# EAGLE library part SPICE_IO (library sjg-pixl)
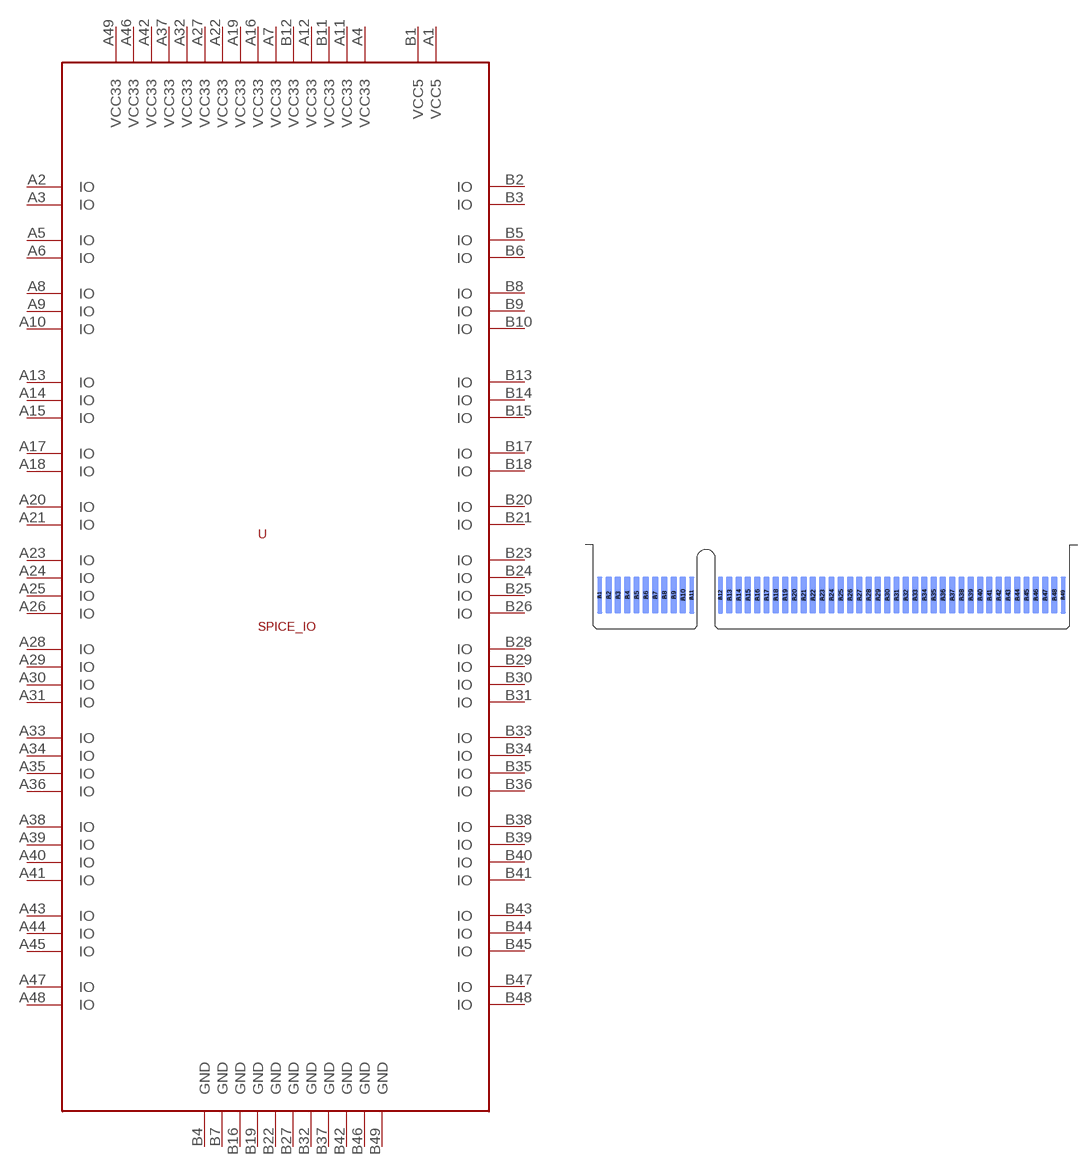
[diagram p6: symbol with the pads of PCIE98; footprint PCIE98]

Designator prefix -

## SPICE_IO  [PCIE98]
A1  VCC5
A2  IO
A3  IO
A4  VCC33
A5  IO
A6  IO
A7  VCC33
A8  IO
A9  IO
A10  IO
A11  VCC33
A12  VCC33
A13  IO
A14  IO
A15  IO
A16  VCC33
A17  IO
A18  IO
A19  VCC33
A20  IO
A21  IO
A22  VCC33
A23  IO
A24  IO
A25  IO
A26  IO
A27  VCC33
A28  IO
A29  IO
A30  IO
A31  IO
A32  VCC33
A33  IO
A34  IO
A35  IO
A36  IO
A37  VCC33
A38  IO
A39  IO
A40  IO
A41  IO
A42  VCC33
A43  IO
A44  IO
A45  IO
A46  VCC33
A47  IO
A48  IO
A49  VCC33
B1  VCC5
B2  IO
B3  IO
B4  GND
B5  IO
B6  IO
B7  GND
B8  IO
B9  IO
B10  IO
B11  VCC33
B12  VCC33
B13  IO
B14  IO
B15  IO
B16  GND
B17  IO
B18  IO
B19  GND
B20  IO
B21  IO
B22  GND
B23  IO
B24  IO
B25  IO
B26  IO
B27  GND
B28  IO
B29  IO
B30  IO
B31  IO
B32  GND
B33  IO
B34  IO
B35  IO
B36  IO
B37  GND
B38  IO
B39  IO
B40  IO
B41  IO
B42  GND
B43  IO
B44  IO
B45  IO
B46  GND
B47  IO
B48  IO
B49  GND

## Footprint PCIE98 (pad centres in mm)
smd 0.6 x 4 bottom: A1 -11.45,3.6; A11 -1.55,3.6; A12 1.55,3.6; A49 38.45,3.6
smd 0.7 x 4 bottom: A2 -10.5,3.6; A3 -9.5,3.6; A4 -8.5,3.6; A5 -7.5,3.6; A6 -6.5,3.6; A7 -5.5,3.6; A8 -4.5,3.6; A9 -3.5,3.6; A10 -2.5,3.6; A13 2.5,3.6; A14 3.5,3.6; A15 4.5,3.6; A16 5.5,3.6; A17 6.5,3.6; A18 7.5,3.6; A19 8.5,3.6; A20 9.5,3.6; A21 10.5,3.6; A22 11.5,3.6; A23 12.5,3.6; A24 13.5,3.6; A25 14.5,3.6; A26 15.5,3.6; A27 16.5,3.6; A28 17.5,3.6; A29 18.5,3.6; A30 19.5,3.6; A31 20.5,3.6; A32 21.5,3.6; A33 22.5,3.6; A34 23.5,3.6; A35 24.5,3.6; A36 25.5,3.6; A37 26.5,3.6; A38 27.5,3.6; A39 28.5,3.6; A40 29.5,3.6; A41 30.5,3.6; A42 31.5,3.6; A43 32.5,3.6; A44 33.5,3.6; A45 34.5,3.6; A46 35.5,3.6; A47 36.5,3.6; A48 37.5,3.6
smd 0.6 x 4: B1 -11.45,3.6; B11 -1.55,3.6; B12 1.55,3.6; B49 38.45,3.6
smd 0.7 x 4: B2 -10.5,3.6; B3 -9.5,3.6; B4 -8.5,3.6; B5 -7.5,3.6; B6 -6.5,3.6; B7 -5.5,3.6; B8 -4.5,3.6; B9 -3.5,3.6; B10 -2.5,3.6; B13 2.5,3.6; B14 3.5,3.6; B15 4.5,3.6; B16 5.5,3.6; B17 6.5,3.6; B18 7.5,3.6; B19 8.5,3.6; B20 9.5,3.6; B21 10.5,3.6; B22 11.5,3.6; B23 12.5,3.6; B24 13.5,3.6; B25 14.5,3.6; B26 15.5,3.6; B27 16.5,3.6; B28 17.5,3.6; B29 18.5,3.6; B30 19.5,3.6; B31 20.5,3.6; B32 21.5,3.6; B33 22.5,3.6; B34 23.5,3.6; B35 24.5,3.6; B36 25.5,3.6; B37 26.5,3.6; B38 27.5,3.6; B39 28.5,3.6; B40 29.5,3.6; B41 30.5,3.6; B42 31.5,3.6; B43 32.5,3.6; B44 33.5,3.6; B45 34.5,3.6; B46 35.5,3.6; B47 36.5,3.6; B48 37.5,3.6